# Altium schematic symbol library KT940.SchLib: 1 symbol
Pins are listed as number, name and electrical type; pins without a type are passive.

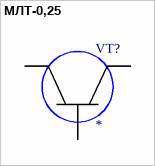
[diagram p0: symbol МЛТ-0,25]

## МЛТ-0,25
designator VT?
NPN transistor
footprint PCBComponent_1
pins: 1 E, 2 C, 3 B